# Altium schematic symbol library BUZZER PKM13EPYH4000-A0.Schlib: 1 symbol
Pins are listed as number, name and electrical type; pins without a type are passive.

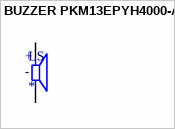
[diagram p0: symbol BUZZER PKM13EPYH4000-A0]

## BUZZER PKM13EPYH4000-A0
designator LS
Buzzers Transducer, Externally Driven Piezo 1.5V 4kHz 70dB @ 1.5V, 10cm Through Hole PC Pins
pins: N, P
text: +; -